# EAGLE library part 2420-13? (library con-wieson-2420)
2.0mm 2420-13 - 13 pin Source: http://www.jm.pl/karty/2420-XXXT1X-C.pdf
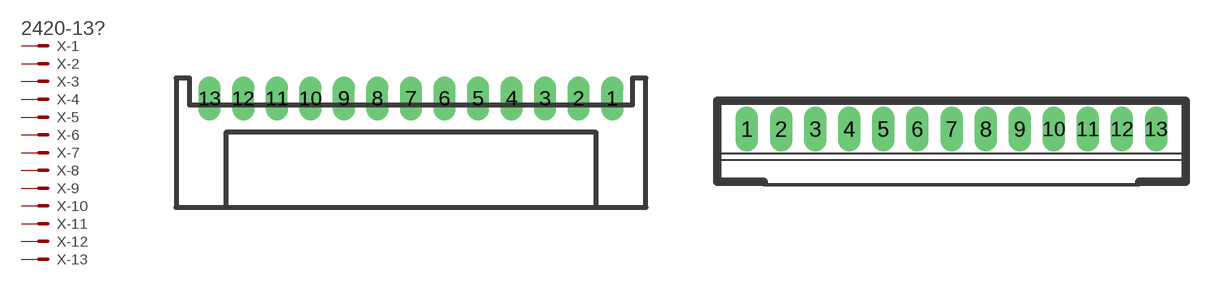
[diagram p4: symbol with the pads of 2420-13R; footprints 2420-13R, 2420-13S]

Designator prefix X; gates -1=MV -2=M -3=M -4=M -5=M -6=M -7=M -8=M -9=M -10=M -11=M -12=M -13=M

## 2420-13R  [2420-13R]
1  -1:>NAME$
2  -2:>NAME$
3  -3:>NAME$
4  -4:>NAME$
5  -5:>NAME$
6  -6:>NAME$
7  -7:>NAME$
8  -8:>NAME$
9  -9:>NAME$
10  -10:>NAME$
11  -11:>NAME$
12  -12:>NAME$
13  -13:>NAME$

## 2420-13S  [2420-13S]
Pads as for 2420-13R

## Footprint 2420-13R (pad centres in mm)
2.0mm right angle 2420-13 - 13 pin Source: http://www.jm.pl/karty/2420-XXXT1X-C.pdf
drill 0.8 long: 1 12,0; 2 10,0; 3 8,0; 4 6,0; 5 4,0; 6 2,0; 7 0,0; 8 -2,0; 9 -4,0; 10 -6,0; 11 -8,0; 12 -10,0; 13 -12,0

## Footprint 2420-13S (pad centres in mm)
2.0mm straight 2420-13 - 13 pin Source: http://www.jm.pl/karty/2420-XXXT1X-C.pdf
drill 0.8 long: 1 -12,0; 2 -10,0; 3 -8,0; 4 -6,0; 5 -4,0; 6 -2,0; 7 0,0; 8 2,0; 9 4,0; 10 6,0; 11 8,0; 12 10,0; 13 12,0